# EAGLE library part SWITCH-4PDT (library SparkFun-Electromechanical)
For use with a push-button switch made by CnK components.
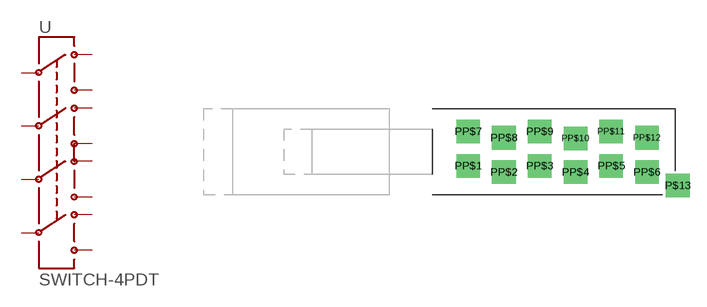
[diagram p11: symbol with the pads of SWITCH-4PDT-CNK; footprint SWITCH-4PDT-CNK]

Designator prefix -

## SWITCH-4PDTCNK_LOCK  [SWITCH-4PDT-CNK]
PP$1  1
PP$2  2
PP$3  3
PP$4  4
PP$5  5
PP$6  6
PP$7  7
PP$8  8
PP$9  9
PP$10  10
PP$11  11
PP$12  12

## Footprint SWITCH-4PDT-CNK (pad centres in mm)
drill 1.4 square: P$13 0.203,-2.997; PP$1 -18.415,-1.245; PP$2 -15.24,-1.803; PP$3 -12.065,-1.245; PP$4 -8.89,-1.803; PP$5 -5.715,-1.245; PP$6 -2.54,-1.803; PP$7 -18.415,1.803; PP$8 -15.24,1.245; PP$9 -12.065,1.803; PP$10 -8.89,1.194; PP$11 -5.715,1.803; PP$12 -2.54,1.245